# EAGLE library part ARDUINO-PRO-MINI-PROG (library micromouse-timer)
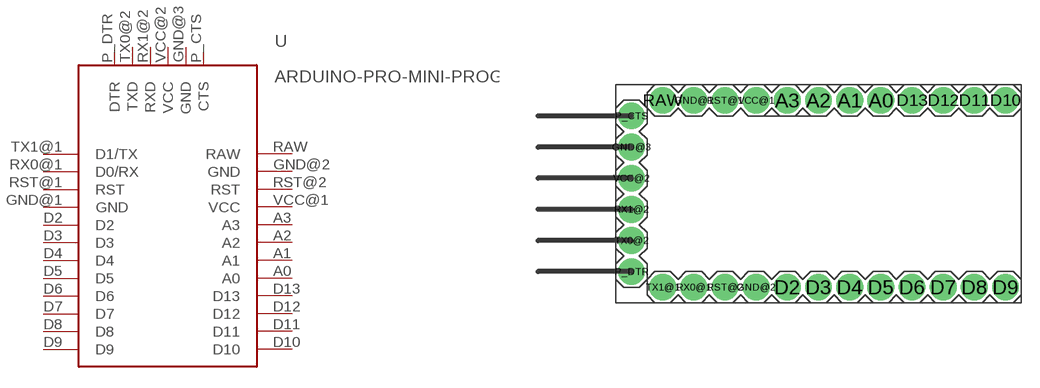
[diagram p15: symbol with the pads of ARDUINO-PRO-MINI-PROG; footprint ARDUINO-PRO-MINI-PROG]

Designator prefix -

## ARDUINO-PRO-MINI-PROG  [ARDUINO-PRO-MINI-PROG]
A0  A0
A1  A1
A2  A2
A3  A3
D2  D2
D3  D3
D4  D4
D5  D5
D6  D6
D7  D7
D8  D8
D9  D9
D10  D10
D11  D11
D12  D12
D13  D13
GND@1  GND  pwr
GND@2  GND  pwr
GND@3  GND
P_CTS  CTS
P_DTR  DTR
RAW  RAW  pwr
RST@1  RST
RST@2  RST
RX0@1  D0/RX
RX1@2  RXD
TX0@2  TXD
TX1@1  D1/TX
VCC@1  VCC  pwr
VCC@2  VCC

## Footprint ARDUINO-PRO-MINI-PROG (pad centres in mm)
drill 1 pad 2.184: A0 8.89,7.62; A1 6.35,7.62; A2 3.81,7.62; A3 1.27,7.62; D2 1.27,-7.62; D3 3.81,-7.62; D4 6.35,-7.62; D5 8.89,-7.62; D6 11.43,-7.62; D7 13.97,-7.62; D8 16.51,-7.62; D9 19.05,-7.62; D10 19.05,7.62; D11 16.51,7.62; D12 13.97,7.62; D13 11.43,7.62; GND@1 -6.35,7.62; GND@2 -1.27,-7.62; GND@3 -11.43,3.81; P_CTS -11.43,6.35; P_DTR -11.43,-6.35; RAW -8.89,7.62; RST@1 -3.81,7.62; RST@2 -3.81,-7.62; RX0@1 -6.35,-7.62; RX1@2 -11.43,-1.27; TX0@2 -11.43,-3.81; TX1@1 -8.89,-7.62; VCC@1 -1.27,7.62; VCC@2 -11.43,1.27